# Altium footprint library HMC7043LP7FE.PcbLib: 3 footprints
Each footprint in its own frame and in the unit in brackets; x right, y up, seen from the top. Pads: shape width x height; smd on the part's side, far side on the other; paste and mask are expansions set on the pad; w line width, h text height; cw(c..) or ccw(c..) is an arc to the next point about the centre after c.
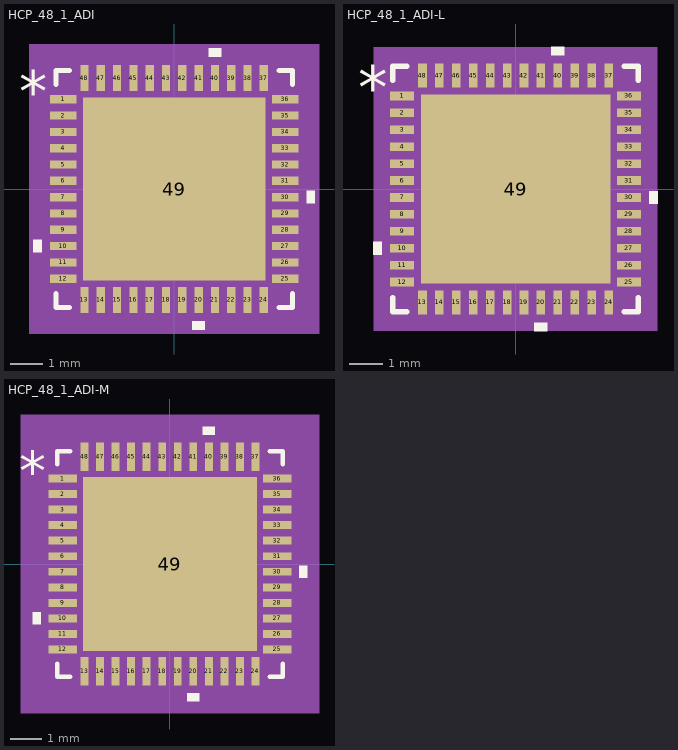
[diagram p0: the footprints below, top view; thin cyan lines are the x and y axes]

## HCP_48_1_ADI [mm]
pads (49):
  rect 0.805x0.254 smd paste+0 mask+0: 1(-3.402,2.75) 2(-3.402,2.25) 3(-3.402,1.75) 4(-3.402,1.25) 5(-3.402,0.75) 6(-3.402,0.25) 7(-3.402,-0.25) 8(-3.402,-0.75) 9(-3.402,-1.25) 10(-3.402,-1.75) 11(-3.402,-2.25) 12(-3.402,-2.75) 25(3.402,-2.75) 26(3.402,-2.25) 27(3.402,-1.75) 28(3.402,-1.25) 29(3.402,-0.75) 30(3.402,-0.25) 31(3.402,0.25) 32(3.402,0.75) 33(3.402,1.25) 34(3.402,1.75) 35(3.402,2.25) 36(3.402,2.75)
  rect 0.254x0.805 smd paste+0 mask+0: 13(-2.75,-3.402) 14(-2.25,-3.402) 15(-1.75,-3.402) 16(-1.25,-3.402) 17(-0.75,-3.402) 18(-0.25,-3.402) 19(0.25,-3.402) 20(0.75,-3.402) 21(1.25,-3.402) 22(1.75,-3.402) 23(2.25,-3.402) 24(2.75,-3.402) 37(2.75,3.402) 38(2.25,3.402) 39(1.75,3.402) 40(1.25,3.402) 41(0.75,3.402) 42(0.25,3.402) 43(-0.25,3.402) 44(-0.75,3.402) 45(-1.25,3.402) 46(-1.75,3.402) 47(-2.25,3.402) 48(-2.75,3.402)
  rect 5.6x5.6 smd paste-2.787 mask+0: 49(0,0)
Top Overlay:
  region: -4.059,-1.559 -4.313,-1.559 -4.313,-1.94 -4.059,-1.94
  region: 0.941,-4.059 0.56,-4.059 0.56,-4.313 0.941,-4.313
  region: 4.059,-0.059 4.313,-0.059 4.313,-0.44 4.059,-0.44
  region: 1.441,4.059 1.06,4.059 1.06,4.313 1.441,4.313
  lines w0.152: -3.627,-3.21 -3.627,-3.627 -3.21,-3.627 ; -3.627,3.21 -3.627,3.627 -3.21,3.627 ; 3.21,-3.627 3.627,-3.627 3.627,-3.21 ; 3.21,3.627 3.627,3.627 3.627,3.21
  text "*" at -4.757,2.365 h1.27
Top Paste:
  region: -1.5,2.7 -2.7,2.7 -2.7,1.5 -1.5,1.5
  region: -1.5,1.3 -2.7,1.3 -2.7,0.1 -1.5,0.1
  region: -1.5,-0.1 -2.7,-0.1 -2.7,-1.3 -1.5,-1.3
  region: -1.5,-1.5 -2.7,-1.5 -2.7,-2.7 -1.5,-2.7
  region: -0.1,2.7 -1.3,2.7 -1.3,1.5 -0.1,1.5
  region: -0.1,1.3 -1.3,1.3 -1.3,0.1 -0.1,0.1
  region: -0.1,-0.1 -1.3,-0.1 -1.3,-1.3 -0.1,-1.3
  region: -0.1,-1.5 -1.3,-1.5 -1.3,-2.7 -0.1,-2.7
  region: 1.3,2.7 0.1,2.7 0.1,1.5 1.3,1.5
  region: 1.3,1.3 0.1,1.3 0.1,0.1 1.3,0.1
  region: 1.3,-0.1 0.1,-0.1 0.1,-1.3 1.3,-1.3
  region: 1.3,-1.5 0.1,-1.5 0.1,-2.7 1.3,-2.7
  region: 2.7,2.7 1.5,2.7 1.5,1.5 2.7,1.5
  region: 2.7,1.3 1.5,1.3 1.5,0.1 2.7,0.1
  region: 2.7,-0.1 1.5,-0.1 1.5,-1.3 2.7,-1.3
  region: 2.7,-1.5 1.5,-1.5 1.5,-2.7 2.7,-2.7
Mechanical 5:
  region: 4.44,-4.44 -4.44,-4.44 -4.44,4.44 4.44,4.44
Mechanical 13:
  drawing of 201 lines, arcs and shapes, not listed
  text "*" at -3.317,2.365 h1.27
Mechanical 15:
  region: -3.131,-3.754 -3.754,-3.754 -3.754,-3.131 -4.059,-3.131 -4.059,3.131 -3.754,3.131 -3.754,3.754 -3.131,3.754 -3.131,4.059 3.131,4.059 3.131,3.754 3.754,3.754 3.754,3.131 4.059,3.131 4.059,-3.131 3.754,-3.131 3.754,-3.754 3.131,-3.754 3.131,-4.059 -3.131,-4.059
  lines w0.152: -4.059,-3.131 -3.754,-3.131 -3.754,-3.754 -3.131,-3.754 -3.131,-4.059 3.131,-4.059 3.131,-3.754 3.754,-3.754 3.754,-3.131 4.059,-3.131 4.059,3.131 3.754,3.131 3.754,3.754 3.131,3.754 3.131,4.059 -3.131,4.059 -3.131,3.754 -3.754,3.754 -3.754,3.131 -4.059,3.131 -4.059,-3.131
3D body "HCP_48_1_ADI.step": height 0.9, standoff 0, extent -3.5,-3.5 3.5,3.5

## HCP_48_1_ADI-L [mm]
pads (49):
  rect 0.703x0.254 smd paste+0 mask+0: 1(-3.352,2.75) 2(-3.352,2.25) 3(-3.352,1.75) 4(-3.352,1.25) 5(-3.352,0.75) 6(-3.352,0.25) 7(-3.352,-0.25) 8(-3.352,-0.75) 9(-3.352,-1.25) 10(-3.352,-1.75) 11(-3.352,-2.25) 12(-3.352,-2.75) 25(3.352,-2.75) 26(3.352,-2.25) 27(3.352,-1.75) 28(3.352,-1.25) 29(3.352,-0.75) 30(3.352,-0.25) 31(3.352,0.25) 32(3.352,0.75) 33(3.352,1.25) 34(3.352,1.75) 35(3.352,2.25) 36(3.352,2.75)
  rect 0.254x0.703 smd paste+0 mask+0: 13(-2.75,-3.352) 14(-2.25,-3.352) 15(-1.75,-3.352) 16(-1.25,-3.352) 17(-0.75,-3.352) 18(-0.25,-3.352) 19(0.25,-3.352) 20(0.75,-3.352) 21(1.25,-3.352) 22(1.75,-3.352) 23(2.25,-3.352) 24(2.75,-3.352) 37(2.75,3.352) 38(2.25,3.352) 39(1.75,3.352) 40(1.25,3.352) 41(0.75,3.352) 42(0.25,3.352) 43(-0.25,3.352) 44(-0.75,3.352) 45(-1.25,3.352) 46(-1.75,3.352) 47(-2.25,3.352) 48(-2.75,3.352)
  rect 5.6x5.6 smd paste-2.787 mask+0: 49(0,0)
Top Overlay:
  region: -3.957,-1.559 -4.211,-1.559 -4.211,-1.94 -3.957,-1.94
  region: 0.941,-3.957 0.56,-3.957 0.56,-4.211 0.941,-4.211
  region: 3.957,-0.059 4.211,-0.059 4.211,-0.44 3.957,-0.44
  region: 1.441,3.957 1.06,3.957 1.06,4.211 1.441,4.211
  lines w0.152: -3.627,-3.21 -3.627,-3.627 -3.21,-3.627 ; -3.627,3.21 -3.627,3.627 -3.21,3.627 ; 3.21,-3.627 3.627,-3.627 3.627,-3.21 ; 3.21,3.627 3.627,3.627 3.627,3.21
  text "*" at -4.656,2.365 h1.27
Top Paste:
  region: -1.5,2.7 -2.7,2.7 -2.7,1.5 -1.5,1.5
  region: -1.5,1.3 -2.7,1.3 -2.7,0.1 -1.5,0.1
  region: -1.5,-0.1 -2.7,-0.1 -2.7,-1.3 -1.5,-1.3
  region: -1.5,-1.5 -2.7,-1.5 -2.7,-2.7 -1.5,-2.7
  region: -0.1,2.7 -1.3,2.7 -1.3,1.5 -0.1,1.5
  region: -0.1,1.3 -1.3,1.3 -1.3,0.1 -0.1,0.1
  region: -0.1,-0.1 -1.3,-0.1 -1.3,-1.3 -0.1,-1.3
  region: -0.1,-1.5 -1.3,-1.5 -1.3,-2.7 -0.1,-2.7
  region: 1.3,2.7 0.1,2.7 0.1,1.5 1.3,1.5
  region: 1.3,1.3 0.1,1.3 0.1,0.1 1.3,0.1
  region: 1.3,-0.1 0.1,-0.1 0.1,-1.3 1.3,-1.3
  region: 1.3,-1.5 0.1,-1.5 0.1,-2.7 1.3,-2.7
  region: 2.7,2.7 1.5,2.7 1.5,1.5 2.7,1.5
  region: 2.7,1.3 1.5,1.3 1.5,0.1 2.7,0.1
  region: 2.7,-0.1 1.5,-0.1 1.5,-1.3 2.7,-1.3
  region: 2.7,-1.5 1.5,-1.5 1.5,-2.7 2.7,-2.7
Mechanical 5:
  region: 4.186,-4.186 -4.186,-4.186 -4.186,4.186 4.186,4.186
Mechanical 13:
  drawing of 201 lines, arcs and shapes, not listed
  text "*" at -3.317,2.365 h1.27
Mechanical 15:
  region: -2.979,-3.602 -3.602,-3.602 -3.602,-2.979 -3.805,-2.979 -3.805,2.979 -3.602,2.979 -3.602,3.602 -2.979,3.602 -2.979,3.805 2.979,3.805 2.979,3.602 3.602,3.602 3.602,2.979 3.805,2.979 3.805,-2.979 3.602,-2.979 3.602,-3.602 2.979,-3.602 2.979,-3.805 -2.979,-3.805
  lines w0.152: -3.805,-2.979 -3.602,-2.979 -3.602,-3.602 -2.979,-3.602 -2.979,-3.805 2.979,-3.805 2.979,-3.602 3.602,-3.602 3.602,-2.979 3.805,-2.979 3.805,2.979 3.602,2.979 3.602,3.602 2.979,3.602 2.979,3.805 -2.979,3.805 -2.979,3.602 -3.602,3.602 -3.602,2.979 -3.805,2.979 -3.805,-2.979
3D body "HCP_48_1_ADI.step": height 0.9, standoff 0, extent -3.5,-3.5 3.5,3.5

## HCP_48_1_ADI-M [mm]
pads (49):
  rect 0.906x0.254 smd paste+0 mask+0: 1(-3.453,2.75) 2(-3.453,2.25) 3(-3.453,1.75) 4(-3.453,1.25) 5(-3.453,0.75) 6(-3.453,0.25) 7(-3.453,-0.25) 8(-3.453,-0.75) 9(-3.453,-1.25) 10(-3.453,-1.75) 11(-3.453,-2.25) 12(-3.453,-2.75) 25(3.453,-2.75) 26(3.453,-2.25) 27(3.453,-1.75) 28(3.453,-1.25) 29(3.453,-0.75) 30(3.453,-0.25) 31(3.453,0.25) 32(3.453,0.75) 33(3.453,1.25) 34(3.453,1.75) 35(3.453,2.25) 36(3.453,2.75)
  rect 0.254x0.906 smd paste+0 mask+0: 13(-2.75,-3.453) 14(-2.25,-3.453) 15(-1.75,-3.453) 16(-1.25,-3.453) 17(-0.75,-3.453) 18(-0.25,-3.453) 19(0.25,-3.453) 20(0.75,-3.453) 21(1.25,-3.453) 22(1.75,-3.453) 23(2.25,-3.453) 24(2.75,-3.453) 37(2.75,3.453) 38(2.25,3.453) 39(1.75,3.453) 40(1.25,3.453) 41(0.75,3.453) 42(0.25,3.453) 43(-0.25,3.453) 44(-0.75,3.453) 45(-1.25,3.453) 46(-1.75,3.453) 47(-2.25,3.453) 48(-2.75,3.453)
  rect 5.6x5.6 smd paste-2.787 mask+0: 49(0,0)
Top Overlay:
  region: -4.16,-1.559 -4.414,-1.559 -4.414,-1.94 -4.16,-1.94
  region: 0.941,-4.16 0.56,-4.16 0.56,-4.414 0.941,-4.414
  region: 4.16,-0.059 4.414,-0.059 4.414,-0.44 4.16,-0.44
  region: 1.441,4.16 1.06,4.16 1.06,4.414 1.441,4.414
  lines w0.152: -3.627,-3.21 -3.627,-3.627 -3.21,-3.627 ; -3.627,3.21 -3.627,3.627 -3.21,3.627 ; 3.21,-3.627 3.627,-3.627 3.627,-3.21 ; 3.21,3.627 3.627,3.627 3.627,3.21
  text "*" at -4.859,2.365 h1.27
Top Paste:
  region: -1.5,2.7 -2.7,2.7 -2.7,1.5 -1.5,1.5
  region: -1.5,1.3 -2.7,1.3 -2.7,0.1 -1.5,0.1
  region: -1.5,-0.1 -2.7,-0.1 -2.7,-1.3 -1.5,-1.3
  region: -1.5,-1.5 -2.7,-1.5 -2.7,-2.7 -1.5,-2.7
  region: -0.1,2.7 -1.3,2.7 -1.3,1.5 -0.1,1.5
  region: -0.1,1.3 -1.3,1.3 -1.3,0.1 -0.1,0.1
  region: -0.1,-0.1 -1.3,-0.1 -1.3,-1.3 -0.1,-1.3
  region: -0.1,-1.5 -1.3,-1.5 -1.3,-2.7 -0.1,-2.7
  region: 1.3,2.7 0.1,2.7 0.1,1.5 1.3,1.5
  region: 1.3,1.3 0.1,1.3 0.1,0.1 1.3,0.1
  region: 1.3,-0.1 0.1,-0.1 0.1,-1.3 1.3,-1.3
  region: 1.3,-1.5 0.1,-1.5 0.1,-2.7 1.3,-2.7
  region: 2.7,2.7 1.5,2.7 1.5,1.5 2.7,1.5
  region: 2.7,1.3 1.5,1.3 1.5,0.1 2.7,0.1
  region: 2.7,-0.1 1.5,-0.1 1.5,-1.3 2.7,-1.3
  region: 2.7,-1.5 1.5,-1.5 1.5,-2.7 2.7,-2.7
Mechanical 5:
  region: 4.795,-4.795 -4.795,-4.795 -4.795,4.795 4.795,4.795
Mechanical 13:
  drawing of 201 lines, arcs and shapes, not listed
  text "*" at -3.317,2.365 h1.27
Mechanical 15:
  region: -3.385,-4.008 -4.008,-4.008 -4.008,-3.385 -4.414,-3.385 -4.414,3.385 -4.008,3.385 -4.008,4.008 -3.385,4.008 -3.385,4.414 3.385,4.414 3.385,4.008 4.008,4.008 4.008,3.385 4.414,3.385 4.414,-3.385 4.008,-3.385 4.008,-4.008 3.385,-4.008 3.385,-4.414 -3.385,-4.414
  lines w0.152: -4.414,-3.385 -4.008,-3.385 -4.008,-4.008 -3.385,-4.008 -3.385,-4.414 3.385,-4.414 3.385,-4.008 4.008,-4.008 4.008,-3.385 4.414,-3.385 4.414,3.385 4.008,3.385 4.008,4.008 3.385,4.008 3.385,4.414 -3.385,4.414 -3.385,4.008 -4.008,4.008 -4.008,3.385 -4.414,3.385 -4.414,-3.385
3D body "HCP_48_1_ADI.step": height 0.9, standoff 0, extent -3.5,-3.5 3.5,3.5